# Altium footprint library SAMTEC_MTSW-104-22-S-S-405.PcbLib: 1 footprints
Each footprint in its own frame and in the unit in brackets; x right, y up, seen from the top. Pads: shape width x height; smd on the part's side, far side on the other; paste and mask are expansions set on the pad; w line width, h text height; cw(c..) or ccw(c..) is an arc to the next point about the centre after c.
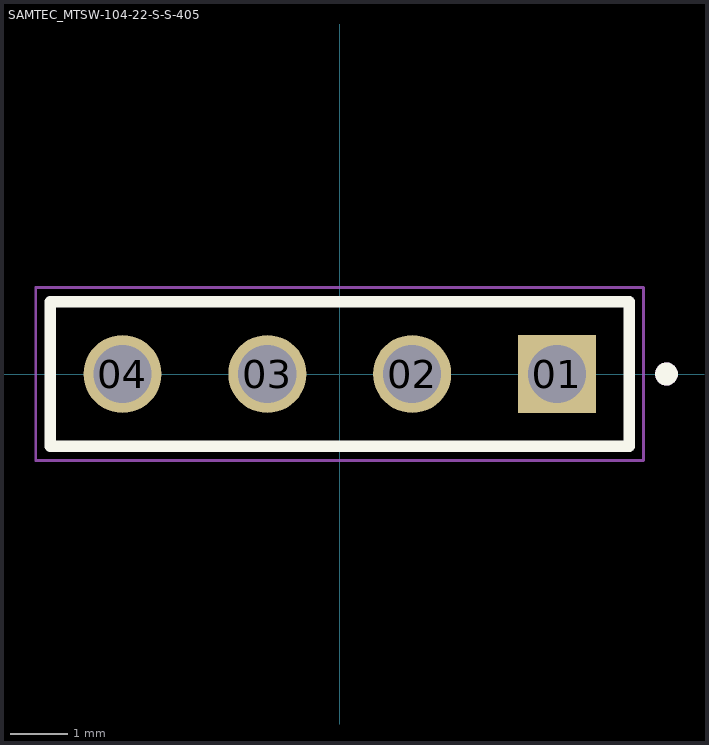
[diagram p0: the footprint, top view; thin cyan lines are the x and y axes]

## SAMTEC_MTSW-104-22-S-S-405 [mm]
pads (4):
  rect 1.37x1.37 hole 1.02: 01(3.81,0)
  round 1.37 hole 1.02: 02(1.27,0) 03(-1.27,0) 04(-3.81,0)
Top Overlay:
  circle w0.2: c5.73,0 r0.1
  lines w0.2: -5.08,-1.27 -5.08,1.27 5.08,1.27 5.08,-1.27 -5.08,-1.27
Mechanical 13:
  circle w0.2: c5.73,0 r0.1
  lines w0.1: -5.08,-1.27 -5.08,1.27 ; -5.08,-1.27 5.08,-1.27 ; -5.08,-1.27 -5.08,1.27 ; -5.08,1.27 5.08,1.27 ; -5.08,1.27 5.08,1.27 ; 5.08,-1.27 5.08,1.27 ; 5.08,-1.27 5.08,1.27
Mechanical 15:
  lines w0.05: -5.33,-1.52 -5.33,1.52 5.33,1.52 5.33,-1.52 -5.33,-1.52